# Altium schematic symbol library inductor.SchLib: 31 symbols
Pins are listed as number, name and electrical type; pins without a type are passive.

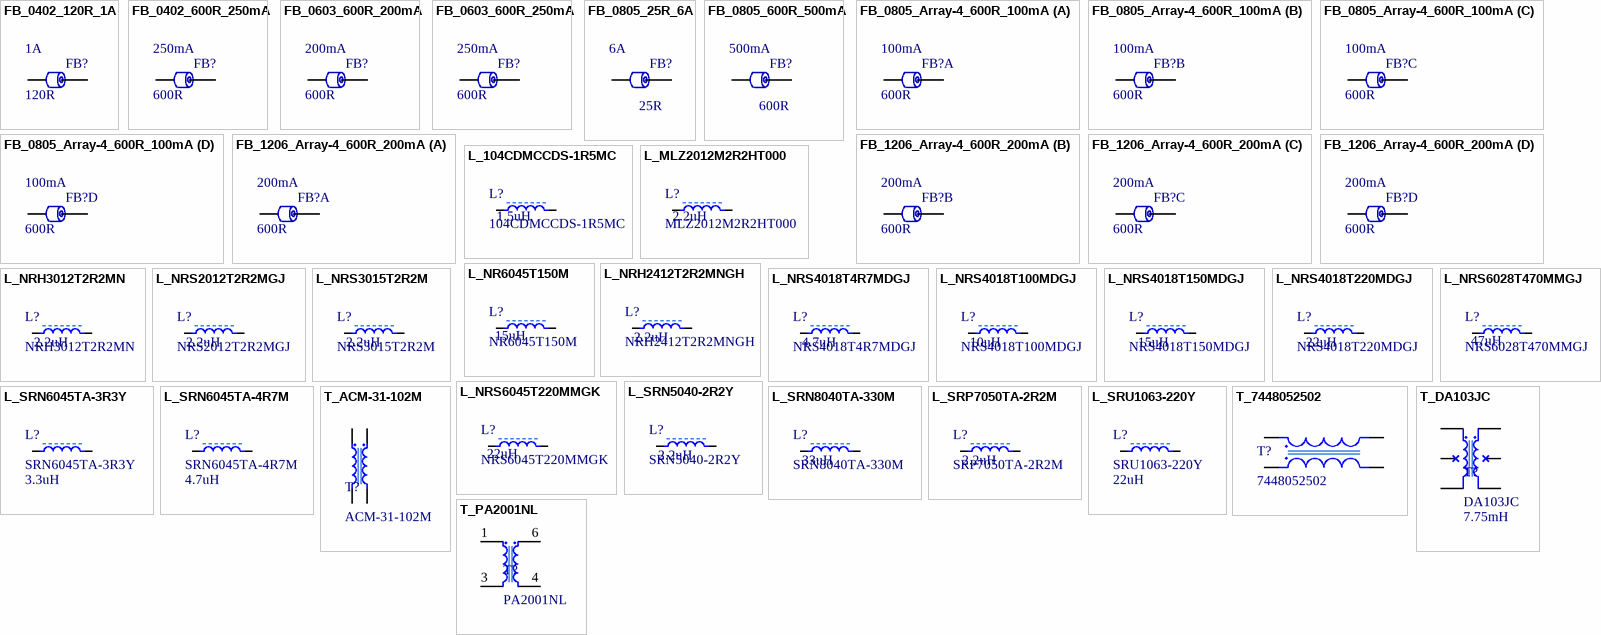
[diagram p0: symbols FB_0402_120R_1A to T_PA2001NL]

## FB_0402_120R_1A
designator FB?, comment value 120R  Current Rating: 1A  (hidden comment: BKP1005HS121-T)
120 Ohms @ 100MHz 1 Power Line Ferrite Bead 0402 (1005 Metric) 1A 140mOhm; Manufacturer: Taiyo Yuden; DC Resistance (DCR): 140mR; Frequency: 100MHz; Manufacturer Part Number: BKP1005HS121-T; Max Operating Temperature: 85°C; Min Operating Temperature: -55°C; Supplier 1: Digi-Key; Supplier 2: Mouser; Supplier Part Number 2: 963-BKP1005HS121-T; Supplier Part Number 1: 587-1921-1-ND
footprint 0402_Inductor (Footprint not found)
pins: 1, 2

## FB_0402_600R_250mA
designator FB?, comment value 600R  Current Rating: 250mA  (hidden comment: BK1005HM601-T)
600 Ohms @ 100MHz 1 Ferrite Bead 0402 (1005 Metric) 250mA 500mOhm; Manufacturer: Taiyo Yuden; DC Resistance (DCR): 500mR; Frequency: 100MHz; Supplier 1: Digi-Key; Supplier Part Number 1: 490-9702-1-ND; Manufacturer Part Number: BK1005HM601-T; Max Operating Temperature: 125°C; Min Operating Temperature: -55°C
footprint 0402_Inductor (Footprint not found)
pins: 1, 2

## FB_0603_600R_200mA
designator FB?, comment value 600R  Current Rating: 200mA  (hidden comment: BLM18TG601TN1D)
600 Ohms @ 100MHz 1 Ferrite Bead 0603 (1608 Metric) 200mA 450mOhm; Manufacturer: Murata; DC Resistance (DCR): 450mR; Frequency: 100MHz; Supplier 1: Digi-Key; Supplier Part Number 1: 490-9702-1-ND; Manufacturer Part Number: BLM18TG601TN1D; Max Operating Temperature: 125°C; Min Operating Temperature: -55°C
footprint 0603_Inductor (0603 Inductor)
pins: 1, 2

## FB_0603_600R_250mA
designator FB?, comment value 600R  Current Rating: 250mA  (hidden comment: BK1608HM601-T)
600 Ohms @ 100MHz 1 Ferrite Bead 0603 (1608 Metric) 250mA 600mOhm; Manufacturer: Taiyo Yuden; DC Resistance (DCR): 600mR; Frequency: 100MHz; Manufacturer Part Number: BK1608HM601-T; Max Operating Temperature: 125°C; Min Operating Temperature: -55°C; Supplier 1: Digi-Key; Supplier Part Number 1: 587-1866-1-ND
footprint 0603_Inductor (0603 Inductor)
pins: 1, 2

## FB_0805_25R_6A
designator FB?, comment value 25R  Current Rating: 6A  (hidden comment: FBMJ2125HS250NT)
25 Ohms @ 100MHz 1 Power Line Ferrite Bead 0805 (2012 Metric) 6A 4mOhm; Manufacturer: Taiyo Yuden; DC Resistance (DCR): 4mR; Max Operating Temperature: 125°C; Manufacturer Part Number: FBMJ2125HS250NT; Min Operating Temperature: -40°C; Frequency: 100MHz; Supplier 1: Digi-Key; Supplier Part Number 1: 587-1767-6-ND
footprint 0805_Inductor (0805 Inductor or Ferrite)
pins: 1, 2

## FB_0805_600R_500mA
designator FB?, comment value 600R  Current Rating: 500mA  (hidden comment: BK2125HM601-T)
600 Ohms @ 100MHz 1 Ferrite Bead 0805 (2012 Metric) 500mA 250mOhm; Manufacturer: Taiyo Yuden; DC Resistance (DCR): 250mR; Max Operating Temperature: 125°C; Manufacturer Part Number: BK2125HM601-T; Min Operating Temperature: -55°C; Frequency: 100MHz; Supplier 1: Digi-Key; Supplier Part Number 1: 587-1902-1-ND
footprint 0805_Inductor (0805 Inductor or Ferrite)
pins: 1, 2

## FB_0805_Array-4_600R_100mA
designator FB?, comment value 600R  Current Rating: 100mA  (hidden comment: BK20104M601-T)
600 Ohms @ 100MHz 4 Ferrite Bead 0804 (2010 Metric), Array, 8 PC Pad 100mA 700mOhm; Manufacturer: Taiyo Yuden; DC Resistance (DCR): 700mR; Frequency: 100MHz; Manufacturer Part Number: BK20104M601-T; Max Operating Temperature: 125°C; Min Operating Temperature: -55°C; Supplier 1: Digi-Key; Supplier Part Number 1: 587-2680-1-ND
footprint 0805_Ferrite_Array-4 (0805 Ferrite Bead Array (4 ferrite beads))
part A pins: 1, 5
part B pins: 2, 6
part C pins: 3, 7
part D pins: 4, 8

## FB_1206_Array-4_600R_200mA
designator FB?, comment value 600R  Current Rating: 200mA  (hidden comment: BK32164S601-T)
600 Ohms @ 100MHz 4 Ferrite Bead 1206 (3216 Metric), Array, 8 PC Pad 200mA 450mOhm; Manufacturer: Taiyo Yuden; DC Resistance (DCR): 450mR; Frequency: 100MHz; Manufacturer Part Number: BK32164S601-T; Max Operating Temperature: 125°C; Min Operating Temperature: -55°C; Supplier 1: Digi-Key; Supplier Part Number 1: 587-2698-1-ND
footprint 1206_Ferrite_Array-4 (1206 Ferrite Bead Array (4 ferrite beads))
part A pins: 1, 5
part B pins: 2, 6
part C pins: 3, 7
part D pins: 4, 8

## L_104CDMCCDS-1R5MC
designator L?, comment 104CDMCCDS-1R5MC  value 1.5uH
1.5µH Shielded Molded Inductor 19A 4.2mOhm Max Nonstandard; Manufacturer: Sumida; DC Resistance (DCR): 4.2mR; Core Material: Metal; Saturation Current: 29A; Test Frequency: 100kHz; Tolerance: 20%; Supplier 1: Digi-Key; Supplier 2: Mouser; Supplier Part Number 1: 308-2497-1-ND; Supplier Part Number 2: 851-104CDMCCDS-1R5MC; Manufacturer Part Number: 104CDMCCDS-1R5MC; Inductance: 1.5uH; Current Rating: 19A; Min Operating Temperature: -55°C; Max Operating Temperature: 125°C
footprint L_104CDMCCDS (Sumida 104CDMCCDS series inductor)
pins: 1, 2

## L_MLZ2012M2R2HT000
designator L?, comment MLZ2012M2R2HT000  value 2.2uH
2.2µH Shielded Multilayer Inductor 600mA 160mOhm 0805 (2012 Metric); Manufacturer: TDK; Tolerance: 20%; Saturation Current: 400mA; DC Resistance (DCR): 208mR; Core Material: Ferrite; Test Frequency: 2MHz; Self Resonant Frequency: 100MHz; Supplier 1: Digi-Key; Supplier 2: Mouser; Supplier Part Number 2: 810-MLZ2012M2R2HT000; Supplier Part Number 1: 445-8658-1-ND; Manufacturer Part Number: MLZ2012M2R2HT000; Max Operating Temperature: 125°C; Min Operating Temperature: -55°C; Current Rating: 600mA; Shielding: Shielded
footprint 0805_Inductor (0805 Inductor or Ferrite)
pins: 1, 2

## L_NR6045T150M
designator L?, comment NR6045T150M  value 15uH
15µH Shielded Wirewound Inductor 1.9A 100.1mOhm Max Nonstandard; Manufacturer: Taiyo Yuden; Saturation Current: 2.3A; Self Resonant Frequency: 10MHz; DC Resistance (DCR): 100.1mR; Tolerance: 20%; Test Frequency: 100kHz; Core Material: Ferrite; Min Operating Temperature: -25°C; Manufacturer Part Number: NR6045T150M; Shielding: Shielded; Composition: Wirewound; Max Operating Temperature: 120°C; Current Rating: 1.9A; Supplier 1: Digi-Key; Supplier Part Number 1: 587-2633-1-ND
footprint L_NR_Series_6.0x6.0mm (Taiyo Yuden 6mm NR Series Inductor)
pins: 1, 2

## L_NRH2412T2R2MNGH
designator L?, comment NRH2412T2R2MNGH  value 2.2uH
2.2µH Shielded Wirewound Inductor 1A 140mOhm Nonstandard; Manufacturer: Taiyo Yuden; Test Frequency: 100kHz; Saturation Current: 1.7A; Core Material: Ferrite; Tolerance: 20%; DC Resistance (DCR): 140mR; Self Resonant Frequency: 72MHz; Current Rating: 1A; Max Operating Temperature: 120°C; Composition: Wirewound; Shielding: Shielded; Min Operating Temperature: -25°C; Case/Package: Nonstandard; Manufacturer Part Number: NRH2412T2R2MNGH; Supplier 1: Digi-Key; Supplier Part Number 1: 587-3443-1-ND
footprint L_NR_Series_2.4x2.4mm (Taiyo Yuden 2.4mm NR Series Inductor)
pins: 1, 2

## L_NRH3012T2R2MN
designator L?, comment NRH3012T2R2MN  value 2.2uH
2.2µH Shielded Wirewound Inductor 1.37A 90mOhm Max Nonstandard; Manufacturer: Taiyo Yuden; Test Frequency: 100kHz; Saturation Current: 1.5A; Core Material: Ferrite; Tolerance: 20%; DC Resistance (DCR): 90mR; Self Resonant Frequency: 78MHz; Current Rating: 1.37A; Max Operating Temperature: 120°C; Composition: Wirewound; Shielding: Shielded; Min Operating Temperature: -25°C; Case/Package: Nonstandard; Manufacturer Part Number: NRH3012T2R2MN; Supplier 1: Digi-Key; Supplier Part Number 1: 587-2589-1-ND
footprint L_NR_Series_3.0x3.0mm (Taiyo Yuden 3.3mm NR Series Inductor)
pins: 1, 2

## L_NRS2012T2R2MGJ
designator L?, comment NRS2012T2R2MGJ  value 2.2uH
2.2µH Shielded Wirewound Inductor 1.37A 107mOhm Nonstandard; Manufacturer: Taiyo Yuden; Test Frequency: 100kHz; Saturation Current: 1.35A; Core Material: Ferrite; Tolerance: 20%; DC Resistance (DCR): 107mR; Current Rating: 1.37A; Max Operating Temperature: 120°C; Composition: Wirewound; Shielding: Shielded; Min Operating Temperature: -25°C; Case/Package: Nonstandard; Manufacturer Part Number: NRS2012T2R2MGJ; Supplier 1: Digi-Key; Supplier 2: Mouser; Supplier Part Number 2: 963-NRS2012T2R2MGJ; Supplier Part Number 1: 587-3450-1-ND
footprint L_NR_Series_2.0x2.0mm (Taiyo Yuden 2.0mm NR Series Inductor)
pins: 1, 2

## L_NRS3015T2R2M
designator L?, comment NRS3015T2R2M  value 2.2uH
2.2µH Shielded Wirewound Inductor 1.5A 58 mOhm Max Nonstandard; Manufacturer Part Number: NRS3015T2R2MNGH; Manufacturer: Taiyo Yuden; Test Frequency: 100kHz; Saturation Current: 1.48A; Core Material: Ferrite; Tolerance: 20%; DC Resistance (DCR): 58mR; Self Resonant Frequency: 64MHz; Supplier 1: Digi-Key; Supplier 2: Digi-Key; Supplier Part Number 1: 587-3561-6-ND; Supplier Part Number 2: 587-1648-6-ND; Current Rating: 1.5A; Max Operating Temperature: 120°C; Composition: Wirewound; Shielding: Shielded; Min Operating Temperature: -25°C; Case/Package: Nonstandard
footprint L_NR_Series_3.0x3.0mm (Taiyo Yuden 3.3mm NR Series Inductor)
pins: 1, 2

## L_NRS4018T4R7MDGJ
designator L?, comment NRS4018T4R7MDGJ  value 4.7uH
4.7µH Shielded Wirewound Inductor 1.7A 84mOhm Max Nonstandard; Manufacturer: Taiyo Yuden; Test Frequency: 100kHz; Saturation Current: 2A; Core Material: Ferrite; Tolerance: 20%; DC Resistance (DCR): 84mR; Self Resonant Frequency: 35MHz; Current Rating: 1.7A; Max Operating Temperature: 120°C; Composition: Wirewound; Shielding: Shielded; Min Operating Temperature: -25°C; Case/Package: Nonstandard; Manufacturer Part Number: NRS4018T4R7MDGJ; Supplier 1: Digi-Key; Supplier 2: Mouser; Supplier Part Number 2: 963-NRS4018T4R7MDGJ; Supplier Part Number 1: 587-2893-1-ND
footprint L_NR_Series_4.0x4.0mm (Taiyo Yuden 4mm NR Series Inductor)
pins: 1, 2

## L_NRS4018T100MDGJ
designator L?, comment NRS4018T100MDGJ  value 10uH
10µH Shielded Wirewound Inductor 1.2A 180mOhm Max Nonstandard; Manufacturer: Taiyo Yuden; Test Frequency: 100kHz; Saturation Current: 1.3A; Core Material: Ferrite; Tolerance: 20%; DC Resistance (DCR): 180mR; Self Resonant Frequency: 25MHz; Current Rating: 1.2A; Max Operating Temperature: 120°C; Composition: Wirewound; Shielding: Shielded; Min Operating Temperature: -25°C; Case/Package: Nonstandard; Manufacturer Part Number: NRS4018T100MDGJ; Supplier 1: Digi-Key; Supplier Part Number 1: 587-2886-1-ND
footprint L_NR_Series_4.0x4.0mm (Taiyo Yuden 4mm NR Series Inductor)
pins: 1, 2

## L_NRS4018T150MDGJ
designator L?, comment NRS4018T150MDGJ  value 15uH
15µH Shielded Wirewound Inductor 850mA 252mOhm Max Nonstandard; Manufacturer: Taiyo Yuden; Tolerance: 20%; DC Resistance (DCR): 210mR; Saturation Current: 1.1A; Self Resonant Frequency: 18MHz; Test Frequency: 100kHz; Supplier 1: Digi-Key; Supplier 2: Mouser; Supplier Part Number 2: 963-NRS4018T150MDGJ; Supplier Part Number 1: 587-2887-1-ND; Current Rating: 850mA; Manufacturer Part Number: NRS4018T150MDGJ; Max Operating Temperature: 125°C; Min Operating Temperature: -25°C; Shielding: Shielded
footprint L_NR_Series_4.0x4.0mm (Taiyo Yuden 4mm NR Series Inductor)
pins: 1, 2

## L_NRS4018T220MDGJ
designator L?, comment NRS4018T220MDGJ  value 22uH
22µH Shielded Wirewound Inductor 720mA 348mOhm Max Nonstandard; Manufacturer: Taiyo Yuden; Tolerance: 20%; DC Resistance (DCR): 348mR; Saturation Current: 900mA; Self Resonant Frequency: 15MHz; Test Frequency: 100kHz; Current Rating: 720mA; Manufacturer Part Number: NRS4018T220MDGJ; Max Operating Temperature: 125°C; Min Operating Temperature: -25°C; Shielding: Shielded; Supplier 1: Digi-Key; Supplier 2: Mouser; Supplier Part Number 1: 587-2889-1-ND; Supplier Part Number 2: 963-NRS4018T220MDGJ
footprint L_NR_Series_4.0x4.0mm (Taiyo Yuden 4mm NR Series Inductor)
pins: 1, 2

## L_NRS6028T470MMGJ
designator L?, comment NRS6028T470MMGJ  value 47uH
47µH Shielded Wirewound Inductor 920mA 390mOhm Max Nonstandard; Manufacturer: Taiyo Yuden; Saturation Current: 1A; Self Resonant Frequency: 8MHz; DC Resistance (DCR): 390mR; Tolerance: 20%; Test Frequency: 100kHz; Core Material: Ferrite; Min Operating Temperature: -25°C; Manufacturer Part Number: NRS6028T470MMGJ; Shielding: Shielded; Composition: Wirewound; Max Operating Temperature: 125°C; Current Rating: 920mA; Supplier 1: Digi-Key; Supplier 2: Mouser; Supplier Part Number 1: 587-2942-1-ND; Supplier Part Number 2: 963-NRS6028T470MMGJ
footprint L_NR_Series_6.0x6.0mm (Taiyo Yuden 6mm NR Series Inductor)
pins: 1, 2

## L_NRS6045T220MMGK
designator L?, comment NRS6045T220MMGK  value 22uH
22µH Shielded Wirewound Inductor 1.6A 139.1mOhm Max Nonstandard; Manufacturer: Taiyo Yuden; Saturation Current: 2A; Self Resonant Frequency: 7MHz; DC Resistance (DCR): 107mR; Tolerance: 20%; Test Frequency: 100kHz; Core Material: Ferrite; Supplier 1: Digi-Key; Supplier Part Number 1: 587-2952-1-ND; Min Operating Temperature: -25°C; Manufacturer Part Number: NRS6045T220MMGK; Shielding: Shielded; Composition: Wirewound; Max Operating Temperature: 125°C; Current Rating: 1.6A
footprint L_NR_Series_6.0x6.0mm (Taiyo Yuden 6mm NR Series Inductor)
pins: 1, 2

## L_SRN5040-2R2Y
designator L?, comment SRN5040-2R2Y  value 2.2uH
2.2µH Semi-Shielded Wirewound Inductor 3.5A 21mOhm Max Nonstandard; Manufacturer: Bourns; Test Frequency: 100kHz; Saturation Current: 4.6A; Core Material: Ferrite; Tolerance: 30%; DC Resistance (DCR): 21mR; Self Resonant Frequency: 40MHz; Current Rating: 3.5A; Max Operating Temperature: 125°C; Composition: Wirewound; Shielding: Semi-Shielded; Min Operating Temperature: -40°C; Case/Package: Nonstandard; Manufacturer Part Number: SRN5040-2R2Y; Supplier 1: Digi-Key; Supplier 2: Mouser; Supplier Part Number 1: SRN5040-2R2YCT-ND; Supplier Part Number 2: 652-SRN5040-2R2Y
footprint L_SRN5040 (Bourns SMD Inductor, 5x5mm, 4mm tall)
pins: 1, 2

## L_SRN6045TA-3R3Y
designator L?, comment SRN6045TA-3R3Y  value 3.3uH
3.3µH Semi-Shielded Wirewound Inductor 5A 21mOhm Nonstandard; Manufacturer: Bourns; Inductance Tolerance: 30%; Saturation Current: 7.8A; DC Resistance (DCR): 21mR; Supplier 1: Digi-Key; Supplier Part Number 1: SRN6045TA-3R3YCT-ND; RMS Current (Irms): 5A; Manufacturer Part Number: SRN6045TA-3R3Y
footprint L_SRN6045 (6x6mm SMD Inductor)
pins: 1, 2

## L_SRN6045TA-4R7M
designator L?, comment SRN6045TA-4R7M  value 4.7uH
4.7µH Semi-Shielded Wirewound Inductor 4.5A 26mOhm Nonstandard; Manufacturer: Bourns; Inductance Tolerance: 20%; Saturation Current: 6.8A; DC Resistance (DCR): 26mR; RMS Current (Irms): 4.5A; Manufacturer Part Number: SRN6045TA-4R7M; Supplier 1: Digi-Key; Supplier Part Number 1: SRN6045TA-4R7MCT-ND
footprint L_SRN6045 (6x6mm SMD Inductor)
pins: 1, 2

## L_SRN8040TA-330M
designator L?, comment SRN8040TA-330M  value 33uH
33µH Semi-Shielded Wirewound Inductor 2.3A 100 mOhm Nonstandard; Manufacturer: Bourns; Inductance Tolerance: 20%; DC Resistance (DCR): 100mR; Saturation Current: 2.6A; Supplier 1: Digi-Key; Manufacturer Part Number: SRN8040TA-330M; RMS Current (Irms): 2.3A; Supplier Part Number 1: SRN8040TA-330MDKR-ND
footprint L_SRN8040 (8x8mm SMD Inductor)
pins: 1, 2

## L_SRP7050TA-2R2M
designator L?, comment SRP7050TA-2R2M  value 2.2uH
2.2µH Shielded Wirewound Inductor 10A 12 mOhm Max Nonstandard; Manufacturer: Bourns; Core Material: Carbonyl Powder; Test Frequency: 100kHz; DC Resistance (DCR): 12mR; Inductance Tolerance: 20%; Saturation Current: 14A; Self Resonant Frequency: 30MHz; Supplier 1: Digi-Key; Supplier Part Number 1: SRP7050TA-2R2MDKR-ND; Current Rating: 10A; Max Operating Temperature: 150°C; RMS Current (Irms): 10A; Manufacturer Part Number: SRP7050TA-2R2M; Shielding: Shielded; Inductance: 2.2uh; Min Operating Temperature: -40°C; Tolerance: 20%; Composition: Wirewound
footprint L_SRP7050 (Bourns SRP7050TA series inductor)
pins: 1, 2

## L_SRU1063-220Y
designator L?, comment SRU1063-220Y  value 22uH
22µH Shielded Wirewound Inductor 3A 60 mOhm Max Nonstandard; Manufacturer: Bourns; Tolerance: 30%; Q Factor: 15; Self Resonant Frequency: 10MHz; Core Material: Ferrite; Test Frequency: 100kHz; DC Resistance (DCR): 60mR; Saturation Current: 3.2A; Supplier 1: Digi-Key; Supplier Part Number 1: SRU1063-220YCT-ND; Composition: Wirewound; Max Operating Temperature: 125°C; Manufacturer Part Number: SRU1063-220Y; RMS Current (Irms): 3A; Current Rating: 3A; Min Operating Temperature: -40°C
footprint L_SRU1063
pins: 1, 2

## T_7448052502
designator T?, comment 7448052502
2.5mH @ 10kHz 2 Line Common Mode Choke Through Hole 25A DCR 2.2 mOhm; Manufacturer: Wurth Electronics; Voltage Rating (AC): 250V; DC Resistance (DCR): 2.2mR; Tolerance: 50%; Supplier 1: Digi-Key; Supplier Part Number 1: 732-5600-ND; Inductance: 2.5mh; Test Frequency: 10kHz; Min Operating Temperature: -40°C; Max Operating Temperature: 125°C; Current Rating: 25A; Manufacturer Part Number: 7448052502
footprint CM_CHOKE_7448052502 (Wurth Common Mode Choke)
pins: 1, 2, 3, 4

## T_ACM-31-102M
designator T?, comment ACM-31-102M
2 Line Common Mode Choke Surface Mount 1 kOhms @ 100MHz 230mA DCR 1 Ohm; Manufacturer Part Number: ACM-31-102M-T; Manufacturer: Abracon; Number of Lines: 2; Voltage Rating (DC): 50V; DC Resistance (DCR): 1R; Supplier 1: Digi-Key; Supplier Part Number 1: 535-12757-1-ND; Max Operating Temperature: 85°C; Min Operating Temperature: -40°C; Max Current Rating: 230mA
footprint CM_CHOKE_3.2x1.6mm (Common Mode Choke SMD 3.2x1.6mm)
pins: 1, 2, 3, 4

## T_DA103JC
designator T?, comment DA103JC  Inductance: 7.75mH
7.75mH Pulse Transformer 1:1 Surface Mount; Manufacturer: Murata; ET: 28VuS; Max Operating Temperature: 85°C; Manufacturer Part Number: DA103JC; Min Operating Temperature: -40°C; Turns Ratio: 1:1; Supplier 1: Digi-Key; Supplier Part Number 1: 811-3305-ND
footprint T_DA100J (PULSE XFMR 1:1)
pins: 1, 2, 3, 4, 5, 6

## T_PA2001NL
designator T?, comment PA2001NL
403µH Pulse Transformer 1:1 Surface Mount; Manufacturer: Pulse Electronics; DC Resistance (DCR): 600mR; Inductance: 403uH; ET: 12VuS; Supplier 1: Digi-Key; Supplier Part Number 1: 553-2921-5-ND; Max Operating Temperature: 130°C; Manufacturer Part Number: PA2001NL; Min Operating Temperature: -40°C; Turns Ratio: 1:1
footprint T_PA2001NL (PULSE XFMR 1:1 403UH)
pins: 1, 3, 4, 6